# EAGLE library part HC4052MB (library sensor_floor)
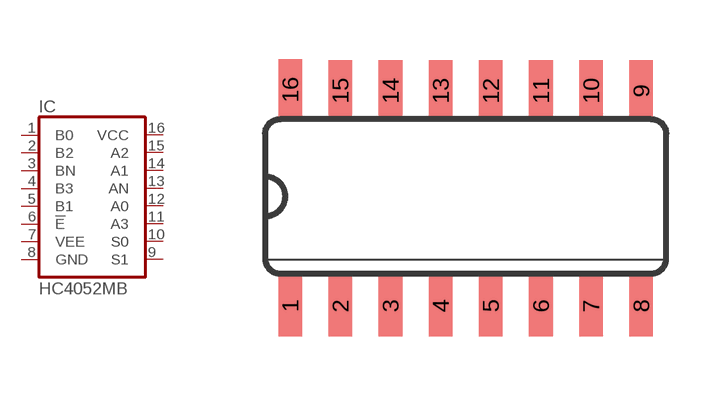
[diagram p1: symbol with the pads of SO16; footprint SO16]

Designator prefix IC

## HC4052MB  [SO16]
1  B0
2  B2
3  BN
4  B3
5  B1
6  !E
7  VEE
8  GND
9  S1
10  S0
11  A3
12  A0
13  AN
14  A1
15  A2
16  VCC

## Footprint SO16 (pad centres in mm)
Small Outline package 150 mil
smd 0.6 x 1.55: 1 -4.445,-2.773; 2 -3.175,-2.773; 3 -1.905,-2.773; 4 -0.635,-2.773; 5 0.635,-2.773; 6 1.905,-2.773; 7 3.175,-2.773; 8 4.445,-2.773; 9 4.445,2.673; 10 3.175,2.673; 11 1.905,2.673; 12 0.635,2.673; 13 -0.635,2.673; 14 -1.905,2.673; 15 -3.175,2.673; 16 -4.445,2.7